# EAGLE library part WE-RJ45_74980111212 (library Wurth_Signal & Communications_WE-RJ45_LAN)
WE-RJ45 LAN Through Hole Reflow Characteristics RJ45 designed to use for Pin-in-Paste soldering High mechanical stability through THT pins High Temperature LEDs Extra high standoff for a good thermal airflow Power over Ethernet up to 30 W Compliant with standard: IEEE 802.3u, IEEE 802.3ab, IEEE 802.3af, IEEE 802.3at Applications Suitable for industrial temperatures from –40 °C up to +85 °C Compatible to Industrial Ethernet systems like EtherCAT or Profinet Compliant with most IC’s for Ethernet applications such as Microchip, Texas Instruments, Broadcom, Linear Technology Hubs, Routers, Switches, IP cameras, IoT applications <https://www.we-online.com/components/media/o713596v209%20family-we-rj45-lan-74980xxx.jpg> Details see: www.we-online.com/components/products/WE-LAN-RJ45_THR <www.we-online.com/catalog/WE-LAN-RJ45_THR/?utm_source=eagle_model&utm_medium=description_link&utm_campaign=eisos_eagle> Created by Ella Wu 2022-12-16 2022 (C) Wurth Elektronik
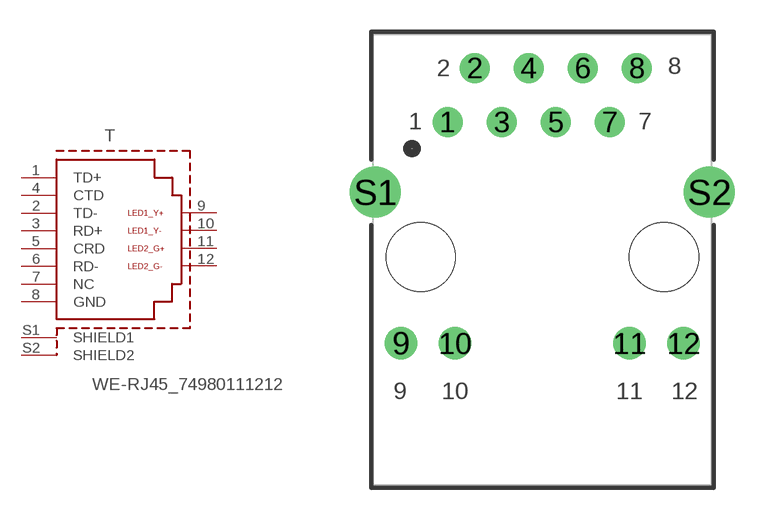
[diagram p53: symbol with the pads of 74980111212; footprint 74980111212]

Designator prefix T

## WE-RJ45_74980111212 (DATA-RATE: 10/100BASE-T; DATASHEET-URL: https://www.we-online.com/redexpert/spec/74980111212?ae; LED: yellow-green; MOUNT: THT; PART-NUMBER: 74980111212; POE: non-PoE; PORTS: 1; USB: No; VALUE: 74980111212)  [74980111212]
1  TD+  pas
2  TD-  pas
3  RD+  pas
4  CTD  pas
5  CRD  pas
6  RD-  pas
7  NC  pas
8  GND  pas
9  LED1_Y+  pas
10  LED1_Y-  pas
11  LED2_G+  pas
12  LED2_G-  pas
S1  SHIELD1  pas
S2  SHIELD2  pas

## Footprint 74980111212 (pad centres in mm)
WE-RJ45 LAN Through Hole Reflow
drill 0.9: 1 -4.445,6.35; 2 -3.175,8.89; 3 -1.905,6.35; 4 -0.635,8.89; 5 0.635,6.35; 6 1.905,8.89; 7 3.175,6.35; 8 4.445,8.89
drill 1.02: 9 -6.64,-4.06; 10 -4.1,-4.06; 11 4.1,-4.06; 12 6.64,-4.06
drill 1.6: S1 -7.85,3.05; S2 7.85,3.05
hole 3.25 at -5.715,0
hole 3.25 at 5.715,0